# Altium footprint library MountingHole.PcbLib: 167 footprints (part 3 of 11)
Each footprint in its own frame and in the unit in brackets; x right, y up, seen from the top. Pads: shape width x height; smd on the part's side, far side on the other; paste and mask are expansions set on the pad; w line width, h text height; cw(c..) or ccw(c..) is an arc to the next point about the centre after c.
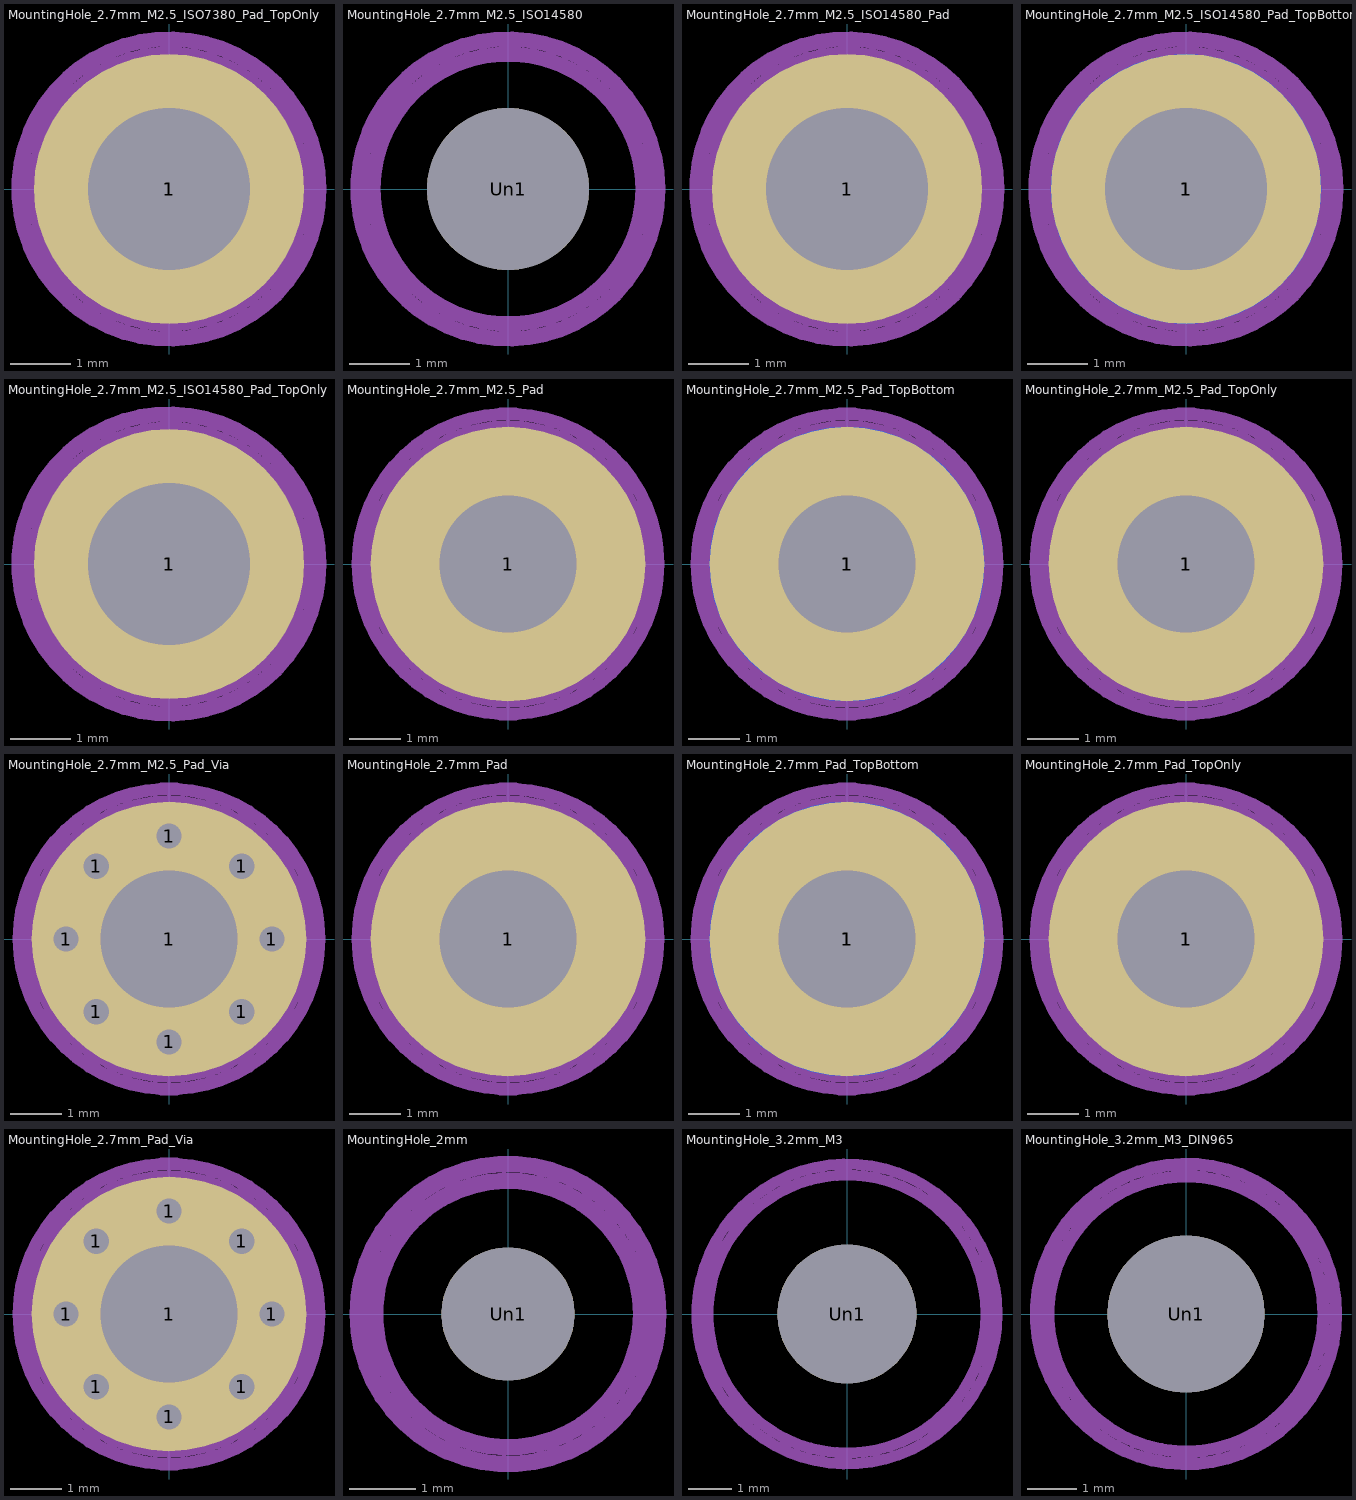
[diagram p2: the footprints below, top view; thin cyan lines are the x and y axes]

## MountingHole_2.7mm_M2.5_ISO7380_Pad_TopOnly [mm]
pads (2):
  round 3.1 hole 2.7: 1(0,0)
  round 4.5 smd: 1(0,0)
Top Assembly:
  text "'.Designator'" at -4.047,-0.84 h1
Top Courtyard:
  circle w0.254: c0,0 r2.5
Top Designator:
  text ".Designator" at -7.768,-0.508 h1.52
Cmts.User:
  circle w0.254: c0,0 r2.25

## MountingHole_2.7mm_M2.5_ISO14580 [mm]
pads (1):
  round 2.7 hole 2.7: Un1(0,0)
Top Assembly:
  text "'.Designator'" at -4.047,-0.84 h1
Top Courtyard:
  circle w0.254: c0,0 r2.5
Top Designator:
  text ".Designator" at -7.768,-0.508 h1.52
Cmts.User:
  circle w0.254: c0,0 r2.25

## MountingHole_2.7mm_M2.5_ISO14580_Pad [mm]
pads (1):
  round 4.5 hole 2.7: 1(0,0)
Top Assembly:
  text "'.Designator'" at -4.047,-0.84 h1
Top Courtyard:
  circle w0.254: c0,0 r2.5
Top Designator:
  text ".Designator" at -7.768,-0.508 h1.52
Cmts.User:
  circle w0.254: c0,0 r2.25

## MountingHole_2.7mm_M2.5_ISO14580_Pad_TopBottom [mm]
pads (3):
  round 3.1 hole 2.7: 1(0,0)
  round 4.5 smd: 1(0,0)
  round 4.5 smd far side: 1(0,0)
Top Assembly:
  text "'.Designator'" at -4.047,-0.84 h1
Top Courtyard:
  circle w0.254: c0,0 r2.5
Top Designator:
  text ".Designator" at -7.768,-0.508 h1.52
Cmts.User:
  circle w0.254: c0,0 r2.25

## MountingHole_2.7mm_M2.5_ISO14580_Pad_TopOnly [mm]
pads (2):
  round 3.1 hole 2.7: 1(0,0)
  round 4.5 smd: 1(0,0)
Top Assembly:
  text "'.Designator'" at -4.047,-0.84 h1
Top Courtyard:
  circle w0.254: c0,0 r2.5
Top Designator:
  text ".Designator" at -7.768,-0.508 h1.52
Cmts.User:
  circle w0.254: c0,0 r2.25

## MountingHole_2.7mm_M2.5_Pad [mm]
pads (1):
  round 5.4 hole 2.7: 1(0,0)
Top Assembly:
  text "'.Designator'" at -4.047,-0.84 h1
Top Courtyard:
  circle w0.254: c0,0 r2.95
Top Designator:
  text ".Designator" at -7.768,-0.508 h1.52
Cmts.User:
  circle w0.254: c0,0 r2.7

## MountingHole_2.7mm_M2.5_Pad_TopBottom [mm]
pads (3):
  round 3.1 hole 2.7: 1(0,0)
  round 5.4 smd: 1(0,0)
  round 5.4 smd far side: 1(0,0)
Top Assembly:
  text "'.Designator'" at -4.047,-0.84 h1
Top Courtyard:
  circle w0.254: c0,0 r2.95
Top Designator:
  text ".Designator" at -7.768,-0.508 h1.52
Cmts.User:
  circle w0.254: c0,0 r2.7

## MountingHole_2.7mm_M2.5_Pad_TopOnly [mm]
pads (2):
  round 3.1 hole 2.7: 1(0,0)
  round 5.4 smd: 1(0,0)
Top Assembly:
  text "'.Designator'" at -4.047,-0.84 h1
Top Courtyard:
  circle w0.254: c0,0 r2.95
Top Designator:
  text ".Designator" at -7.768,-0.508 h1.52
Cmts.User:
  circle w0.254: c0,0 r2.7

## MountingHole_2.7mm_M2.5_Pad_Via [mm]
pads (9):
  round 0.8 hole 0.5: 1(-2.025,0) 1(-1.432,-1.432) 1(-1.432,1.432) 1(0,-2.025) 1(0,2.025) 1(1.432,-1.432) 1(1.432,1.432) 1(2.025,0)
  round 5.4 hole 2.7: 1(0,0)
Top Assembly:
  text "'.Designator'" at -4.047,-0.84 h1
Top Courtyard:
  circle w0.254: c0,0 r2.95
Top Designator:
  text ".Designator" at -7.768,-0.508 h1.52
Cmts.User:
  circle w0.254: c0,0 r2.7

## MountingHole_2.7mm_Pad [mm]
pads (1):
  round 5.4 hole 2.7: 1(0,0)
Top Assembly:
  text "'.Designator'" at -4.047,-0.84 h1
Top Courtyard:
  circle w0.254: c0,0 r2.95
Top Designator:
  text ".Designator" at -7.768,-0.508 h1.52
Cmts.User:
  circle w0.254: c0,0 r2.7

## MountingHole_2.7mm_Pad_TopBottom [mm]
pads (3):
  round 3.1 hole 2.7: 1(0,0)
  round 5.4 smd: 1(0,0)
  round 5.4 smd far side: 1(0,0)
Top Assembly:
  text "'.Designator'" at -4.047,-0.84 h1
Top Courtyard:
  circle w0.254: c0,0 r2.95
Top Designator:
  text ".Designator" at -7.768,-0.508 h1.52
Cmts.User:
  circle w0.254: c0,0 r2.7

## MountingHole_2.7mm_Pad_TopOnly [mm]
pads (2):
  round 3.1 hole 2.7: 1(0,0)
  round 5.4 smd: 1(0,0)
Top Assembly:
  text "'.Designator'" at -4.047,-0.84 h1
Top Courtyard:
  circle w0.254: c0,0 r2.95
Top Designator:
  text ".Designator" at -7.768,-0.508 h1.52
Cmts.User:
  circle w0.254: c0,0 r2.7

## MountingHole_2.7mm_Pad_Via [mm]
pads (9):
  round 0.8 hole 0.5: 1(-2.025,0) 1(-1.432,-1.432) 1(-1.432,1.432) 1(0,-2.025) 1(0,2.025) 1(1.432,-1.432) 1(1.432,1.432) 1(2.025,0)
  round 5.4 hole 2.7: 1(0,0)
Top Assembly:
  text "'.Designator'" at -4.047,-0.84 h1
Top Courtyard:
  circle w0.254: c0,0 r2.95
Top Designator:
  text ".Designator" at -7.768,-0.508 h1.52
Cmts.User:
  circle w0.254: c0,0 r2.7

## MountingHole_2mm [mm]
pads (1):
  round 2 hole 2: Un1(0,0)
Top Assembly:
  text "'.Designator'" at -4.047,-0.84 h1
Top Courtyard:
  circle w0.254: c0,0 r2.25
Top Designator:
  text ".Designator" at -7.768,-0.508 h1.52
Cmts.User:
  circle w0.254: c0,0 r2

## MountingHole_3.2mm_M3 [mm]
pads (1):
  round 3.2 hole 3.2: Un1(0,0)
Top Assembly:
  text "'.Designator'" at -4.047,-0.84 h1
Top Courtyard:
  circle w0.254: c0,0 r3.45
Top Designator:
  text ".Designator" at -7.768,-0.508 h1.52
Cmts.User:
  circle w0.254: c0,0 r3.2

## MountingHole_3.2mm_M3_DIN965 [mm]
pads (1):
  round 3.2 hole 3.2: Un1(0,0)
Top Assembly:
  text "'.Designator'" at -4.047,-0.84 h1
Top Courtyard:
  circle w0.254: c0,0 r3.05
Top Designator:
  text ".Designator" at -7.768,-0.508 h1.52
Cmts.User:
  circle w0.254: c0,0 r2.8